# Altium footprint library Antenna.PcbLib: 2 footprints
Each footprint in its own frame and in the unit in brackets; x right, y up, seen from the top. Pads: shape width x height; smd on the part's side, far side on the other; paste and mask are expansions set on the pad; w line width, h text height; cw(c..) or ccw(c..) is an arc to the next point about the centre after c.
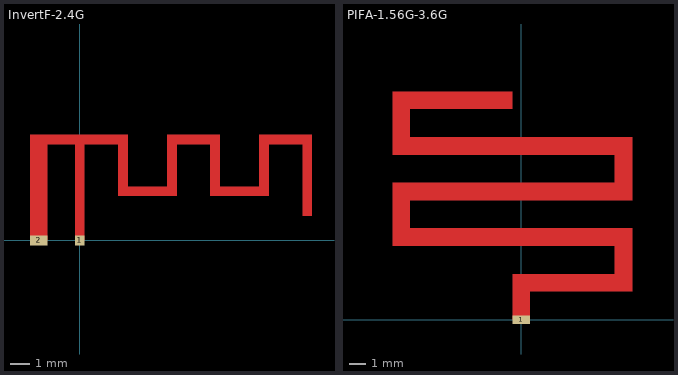
[diagram p0: the footprints below, top view; thin cyan lines are the x and y axes]

## InvertF-2.4G [mm] "http://www.ti.com/lit/pdf/swra117"
pads (2):
  rect 0.5x0.5 smd: 1(0,0)
  rect 0.9x0.5 smd: 2(-2.1,0)
Top Layer:
  rectangle: 11.35,1.26 11.85,5.4
  rectangle: 6.65,2.26 7.15,5.4
  rectangle: 1.95,2.26 2.45,5.4
  rectangle: -2.55,0 -1.65,5.4
  rectangle: -2.55,4.9 2.45,5.4
  rectangle: 4.45,4.9 7.15,5.4
  rectangle: 4.45,2.26 4.95,5.4
  rectangle: 1.95,2.26 4.95,2.76
  rectangle: 9.15,2.26 9.65,5.4
  rectangle: 9.15,4.9 11.85,5.4
  rectangle: -0.25,0 0.25,5.4
  rectangle: 6.65,2.26 9.65,2.76
Multi-Layer:
  pour cut-out: -3.1,0.4 -3.1,5.7 12.2,5.7 12.2,0.4

## PIFA-1.56G-3.6G [mm]
pads (1):
  rect 1.07x0.5 smd: 1(0,0)
Top Layer:
  rectangle: -0.535,-0.001 0.535,2.779
  rectangle: -7.81,12.784 -0.535,13.854
  rectangle: -7.81,10.004 -6.74,13.854
  rectangle: 5.67,1.709 6.74,5.559
  rectangle: -0.535,1.709 6.74,2.779
  rectangle: -7.81,4.474 6.74,5.559
  rectangle: -7.81,4.474 -6.74,8.324
  rectangle: -7.81,7.239 6.74,8.324
  rectangle: 5.67,7.239 6.74,11.089
  rectangle: -7.81,10.004 6.74,11.089
Multi-Layer:
  pour cut-out: 8.3,0 8.3,16.4 -9.9,16.4 -9.9,0